# EAGLE library part MC100EL57DG (library On Semiconductor)
5V ECL 1:4 Differential Multiplexer
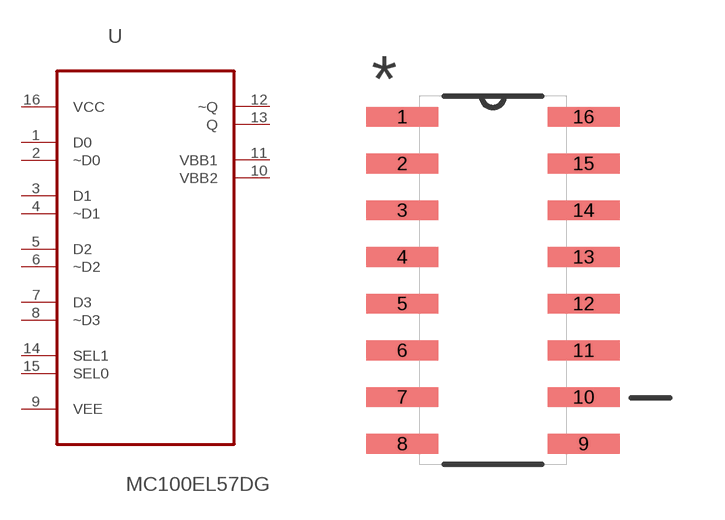
[diagram p84: symbol with the pads of SOIC127P600X175-16N; footprint SOIC127P600X175-16N]

Designator prefix U

## MC100EL57DG (MPN: MC100EL57DG; OC_FARNELL: 1150407; OC_NEWARK: 45J0919; PACKAGE: SOIC-16; SUPPLIER: ON SEMICONDUCTOR)  [SOIC127P600X175-16N]
1  D0  in
2  ~D0  in
3  D1  in
4  ~D1  in
5  D2  in
6  ~D2  in
7  D3  in
8  ~D3  in
9  VEE  pas
10  VBB2  out
11  VBB1  out
12  ~Q  out
13  Q  out
14  SEL1  in
15  SEL0  in
16  VCC  pwr

## Footprint SOIC127P600X175-16N (pad centres in mm)
smd 1.956 x 0.533: 1 -2.464,4.445; 2 -2.464,3.175; 3 -2.464,1.905; 4 -2.464,0.635; 5 -2.464,-0.635; 6 -2.464,-1.905; 7 -2.464,-3.175; 8 -2.464,-4.445; 9 2.464,-4.445; 10 2.464,-3.175; 11 2.464,-1.905; 12 2.464,-0.635; 13 2.464,0.635; 14 2.464,1.905; 15 2.464,3.175; 16 2.464,4.445